# Altium schematic symbol library TPS7A.SchLib: 2 symbols
Pins are listed as number, name and electrical type; pins without a type are passive.

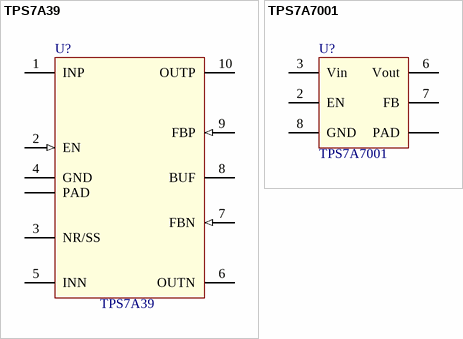
[diagram p0: symbols TPS7A39 to TPS7A7001]

## TPS7A39
designator U?
Dual, 150-mA, Wide VIN Positive and Negative LDO Voltage Regulator; Value: TPS7A39
footprint VSON-10-3x3 (VSON, 10-Leads, Body 3.00x3.00mm, Pitch 0.50mm, Thermal Pad 2.40x1.65mm, IPC Medium Density)
pins: 1 INP (power), 2 EN (in), 3 NR/SS, 4 GND (power), 5 INN (power), 6 OUTN (power), 7 FBN (in), 8 BUF (power), 9 FBP (in), 10 OUTP (power), 11 PAD (power)

## TPS7A7001
designator U?
Very Low Input, Very Low Dropout, 2-Amp Regulator With Enable; Value: TPS7A7001
footprint SO-8-PAD (SOIC, 8-Leads, Body 4,90x3,90mm, Pitch 1,27mm, Thermal Pad 3,10x2,40mm, IPC Medium Density)
pins: 2 EN, 3 Vin (power), 6 Vout, 7 FB, 8 GND (power), PAD (power)